# Altium footprint library Custom pcb footprint.PcbLib: 46 footprints (part 2 of 3)
Each footprint in its own frame and in the unit in brackets; x right, y up, seen from the top. Pads: shape width x height; smd on the part's side, far side on the other; paste and mask are expansions set on the pad; w line width, h text height; cw(c..) or ccw(c..) is an arc to the next point about the centre after c.
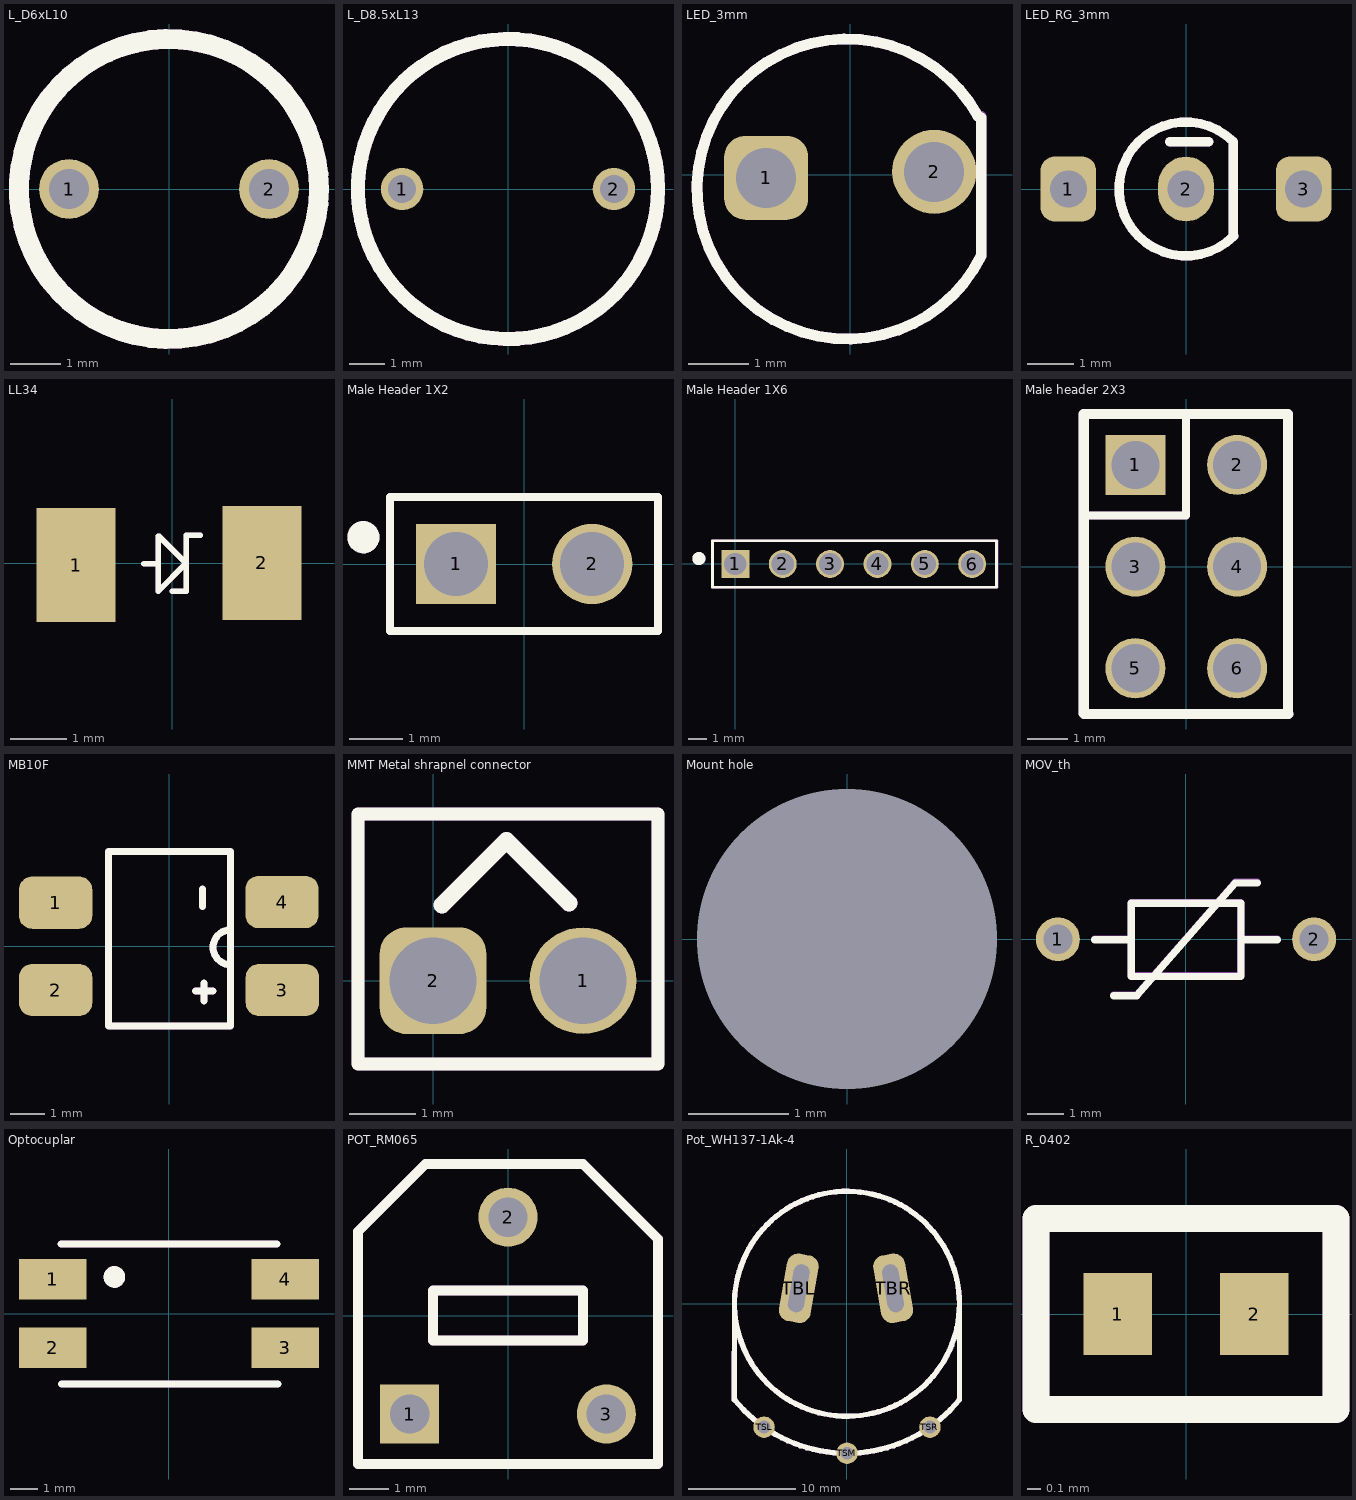
[diagram p1: the footprints below, top view; thin cyan lines are the x and y axes]

## L_D6xL10 [mm] "p=4mm"
pads (2):
  round 1.2 hole 0.8: 1(-2,0) 2(2,0)
Top Overlay:
  circle w0.4: c0,0 r3
Top Assembly:
  circle w0.4: c0,0 r3
  text "'.Designator'" at -1.442,-0.99 h1.52

## L_D8.5xL13 [mm] "p=6mm"
pads (2):
  round 1.2 hole 0.8: 1(-3,0) 2(3,0)
Top Overlay:
  circle w0.4: c0,0 r4.25
Top Assembly:
  circle w0.4: c0,0 r4.25
  text "'.Designator'" at -5.746,-4.238 h1.52
3D body "rlb0914-561kl.stp": height 13.01, standoff -29.99, extent -4.6,-4.6 4.6,4.6

## LED_3mm [mm]
pads (2):
  rrect50% 1.4x1.4 hole 1: 1(-1.4,-0.05)
  round 1.4 hole 1: 2(1.4,0.05)
Top Overlay:
  lines w0.18: 2.132,0.977 ccw(c-0.053,-0.237) 2.185,-1.35 2.185,0.95
Top Assembly:
  lines w0.18: 2.132,0.977 ccw(c-0.053,-0.237) 2.185,-1.35 2.185,0.977
  text "'.Designator'" at -1.4,-0.867 h0.7
3D body "WL-TMRC _3mm LED.step": height 7.37, standoff -24.58, extent -1.885,-2.05 1.685,1.8

## LED_RG_3mm [mm]
pads (3):
  rrect50% 1.2x1.4 hole 0.8: 1(-2.54,0) 3(2.54,0)
  oval 1.2x1.4 hole 0.8: 2(0,0)
Top Overlay:
  lines w0.2: -0.35,1.02 0.49,1.02 ; 1.022,-1.004 1.022,1.022 ccw(c0,0) 1.031,-1.013
Top Assembly:
  lines w0.2: -0.35,1.02 0.49,1.02 ; 1.022,-1.004 1.022,1.022 ccw(c0,0) 1.031,-1.013
  text "'.Designator'" at -2.15,-1.167 h0.7

## LL34 [mm] "Zener"
pads (2):
  rect 1.4x2.03 smd: 1(-1.711,-0.034) 2(1.6,0.007)
Top Overlay:
  lines w0.1: -0.5,-0.01 -0.25,-0.01 ; -0.25,0.479 -0.25,-0.5 0.25,0 -0.229,0.479 ; 0,-0.5 0.25,-0.5 0.25,0.5 0.5,0.5
Top Assembly:
  lines w0.1: -0.5,-0.01 -0.25,-0.01 ; -0.25,0.479 -0.25,-0.5 0.25,0 -0.229,0.479 ; 0,-0.5 0.25,-0.5 0.25,0.5 0.5,0.5
  text "'.Designator'" at -0.798,-0.612 h0.8
3D body "ZMM5231B-7--3DModel-STEP-510211.STEP": height 1.59, standoff 0.01, extent -1.784,-0.786 1.716,0.809

## Male Header 1X2 [mm]
pads (2):
  rect 1.5x1.5 hole 1.2: 1(-1.27,0)
  round 1.5 hole 1.2: 2(1.27,0)
Top Overlay:
  circle w0.4: c-3,0.5 r0.1
  lines w0.15: -2.5,-1.25 2.5,-1.25 2.5,1.25 -2.5,1.25 -2.5,-1.25
Top Assembly:
  circle w0.4: c-3,0.5 r0.1
  lines w0.15: -2.5,-1.25 2.5,-1.25 2.5,1.25 -2.5,1.25 -2.5,-1.25
  text "'.Designator'" at -2.15,-0.417 h0.7
3D body "1X2_77311-y18-02_asm.stp": height 8.39, standoff -3.11, extent -2.34,-1.25 2.34,1.16

## Male Header 1X6 [mm]
pads (6):
  rect 1.5x1.5 hole 1.2: 1(0,0)
  round 1.5 hole 1.2: 2(2.54,0) 3(5.08,0) 4(7.62,0) 5(10.16,0) 6(12.7,0)
Top Overlay:
  circle w0.5: c-1.961,0.291 r0.1
  lines w0.15: -1.23,-1.25 14.005,-1.25 14.005,1.25 -1.23,1.25 -1.23,-1.25
Top Assembly:
  circle w0.5: c-1.961,0.291 r0.1
  lines w0.15: -1.23,-1.25 14.035,-1.25 14.035,1.25 -1.23,1.25 -1.23,-1.25
  text "'.Designator'" at 2.694,-1.911 h0.7
3D body "1x6 Male Pin Header.STEP": height 10.55, standoff -2.99, extent -1.27,-1.25 13.975,1.25

## Male header 2X3 [mm]
pads (6):
  rect 1.5x1.5 hole 1.2: 1(-1.27,2.54)
  round 1.5 hole 1.2: 2(1.27,2.54) 3(-1.27,0) 4(1.27,0) 5(-1.27,-2.54) 6(1.27,-2.54)
Top Overlay:
  lines w0.2: -2.54,1.27 0,1.27 0,3.8
  lines w0.254: -2.56,-3.673 -2.56,3.81 2.54,3.81 2.54,-3.673 ; -2.55,-3.683 2.55,-3.683
Top Assembly:
  lines w0.2: -2.54,1.27 0,1.27 0,3.8
  lines w0.254: -2.56,-3.673 -2.56,3.81 2.54,3.81 2.54,-3.673 ; -2.55,-3.683 2.55,-3.683
  text "'.Designator'" at 0.302,-3.202 h0.7
3D body "CONN_PH2-06-UA_ADM.step": height 8.47, standoff -5.07, extent -2.54,-3.81 2.54,3.81

## MB10F [mm]
pads (4):
  rrect50% 2.1x1.5 smd: 1(-3.25,1.243) 2(-3.25,-1.26) 3(3.25,-1.26) 4(3.24,1.26)
Top Overlay:
  lines w0.2: 0.765,-1.286 1.265,-1.286 ; 0.963,1.13 0.963,1.64 ; 1.001,-1.575 1.001,-1.065 ; 1.765,-0.536 cw(c1.765,-0.036) 1.765,0.464 ; -1.735,-2.286 -1.735,2.714 1.765,2.714 1.765,2.214 1.765,-2.286 -1.735,-2.286
Top Assembly:
  lines w0.2: 0.765,-1.286 1.265,-1.286 ; 0.963,1.13 0.963,1.64 ; 1.001,-1.575 1.001,-1.065 ; 1.765,-0.536 cw(c1.765,-0.036) 1.765,0.464 ; -1.735,-2.286 -1.735,2.714 1.765,2.714 1.765,2.214 1.765,-2.286 -1.735,-2.286
  text "'.Designator'" at 0.065,-2.911 h1.52
3D body "MB10F_DIO.step": height 1.81, standoff 0, extent -3.505,-2.476 3.505,2.476

## MMT Metal shrapnel connector [mm]
pads (2):
  round 1.6 hole 1.3: 1(2.25,0)
  rrect50% 1.6x1.6 hole 1.3: 2(0,0)
Top Overlay:
  lines w0.2: -1.125,-1.25 -1.125,2.5 3.375,2.5 3.375,-1.25 -1.125,-1.25
  lines w0.254: 0.135,1.135 1.1,2.1 2.038,1.162
Top Assembly:
  lines w0.2: -1.125,-1.25 -1.125,2.5 3.375,2.5 3.375,-1.25 -1.125,-1.25
  lines w0.254: 0.135,1.135 1.1,2.1 2.038,1.162
  text "'.Designator'" at -0.775,-0.417 h0.7
3D body "MC Metal Shrapnel Contact.step": height 9.55, standoff -2.3, extent 0,-0.5 2.5,2.67

## Mount hole [mm] "M3"
pads (1):
  round 0 hole 3: A(0,0)

## MOV_th [mm] "p=7mm"
pads (2):
  round 1.2 hole 0.8: 1(-3.5,0) 2(3.5,0)
Top Overlay:
  lines w0.2: -2.499,-0.015 -1.499,-0.015 ; -1.975,-1.54 -1.348,-1.54 1.348,1.54 1.946,1.54 ; -1.499,-1.015 -1.499,0.985 1.501,0.985 1.501,-1.015 -1.438,-1.015 ; 1.501,-0.015 2.501,-0.015
Top Assembly:
  lines w0.2: -2.5,0 -1.5,0 ; -1.976,-1.524 -1.349,-1.524 1.346,1.555 1.945,1.555 ; -1.5,-1 -1.5,1 1.5,1 1.5,-1 -1.439,-1 ; 1.5,0 2.5,0
  text "'.Designator'" at -0.883,-0.601 h0.8

## Optocuplar [mm] "4P SMD PC817"
pads (4):
  rect 2.5x1.5 smd: 1(-4.3,1.27) 2(-4.3,-1.27) 3(4.3,-1.27) 4(4.3,1.27)
Top Overlay:
  circle w0.4: c-2.019,1.357 r0.2
  lines w0.254: -4,2.571 4,2.571 ; -3.971,-2.6 4.029,-2.6
Top Assembly:
  circle w0.4: c-2.019,1.357 r0.2
  lines w0.254: -4,2.571 4,2.571 ; -3.971,-2.6 4.029,-2.6
  text "'.Designator'" at -2.156,-1.051 h1.52
3D body "User Library-PC817 Gullwing Assembly.STEP": height 3.85, standoff 0, extent -5,-2.29 5,2.29

## POT_RM065 [mm] "3 pin pot"
pads (3):
  rect 1.5x1.5 hole 1: 1(-2.5,-2.5)
  round 1.5 hole 1: 2(0,2.5) 3(2.5,-2.5)
Top Overlay:
  lines w0.254: -2.095,3.85 1.905,3.85 ; -2.095,3.85 -3.81,2.135 -3.81,1.945 -3.81,-3.77 3.81,-3.77 3.81,1.945 1.905,3.85 ; -2.095,3.85 1.905,3.85 ; -1.905,-0.635 1.905,-0.635 1.905,0.635 -1.905,0.635 -1.905,-0.635
Top Assembly:
  lines w0.254: -2.095,3.85 1.905,3.85 ; -2.095,3.85 -3.81,2.135 -3.81,1.945 -3.81,-3.77 3.81,-3.77 3.81,1.945 1.905,3.85 ; -2.095,3.85 1.905,3.85 ; -1.905,-0.635 1.905,-0.635 1.905,0.635 -1.905,0.635 -1.905,-0.635
  text "'.Designator'" at -2.3,-0.64 h1.52
3D body "Poti_10kohm.stp": height 9.44, standoff -2.39, extent -3.417,-3.485 3.383,3.398

## Pot_WH137-1Ak-4 [mm] "Fan POT _B500K"
pads (5):
  rrect70% 6.4x3 hole 1.5 slot 4.5 at 80 deg rot 80: TBL(-4.5,1.446)
  rrect70% 6.4x3 hole 1.5 slot 4.5 at 100 deg rot 100: TBR(4.3,1.446)
  round 2 hole 1.2: TSL(-7.743,-11.513) TSM(0,-13.954) TSR(7.743,-11.513)
Top Overlay:
  circle w0.5: c0,0 r10.5
  lines w0.5: -10.526,-8.948 -10.498,0.126 ; -10.493,-8.948 ccw(c0,-0.454) 10.493,-8.948 ; 10.5,-8.948 10.5,0.254
Top Assembly:
  circle w0.5: c0,0 r10.5
  lines w0.5: -10.526,-8.948 -10.498,0.126 ; -10.493,-8.948 ccw(c0,-0.454) 10.493,-8.948 ; 10.5,-8.948 10.5,0.254
  text "'.Designator'" at -3.246,-6.692 h1.52

## R_0402 [mm]
pads (2):
  rect 0.5x0.6 smd: 1(-0.5,0) 2(0.5,0)
Top Overlay:
  lines w0.2: -1.1,-0.7 1.1,-0.7 1.1,0.7 -1.1,0.7 -1.1,-0.7
Top Assembly:
  lines w0.2: -1.1,-0.7 1.1,-0.7 1.1,0.7 -1.1,0.7 -1.1,-0.7
  text "'.Designator'" at -0.8,-0.233 h0.5
3D body "RC0402FR-070RL.STEP": height 0.41, standoff 0.01, extent -0.5,-0.25 0.5,0.25